# Altium footprint library SM_Omega2S.PcbLib: 1 footprints
Each footprint in its own frame and in the unit in brackets; x right, y up, seen from the top. Pads: shape width x height; smd on the part's side, far side on the other; paste and mask are expansions set on the pad; w line width, h text height; cw(c..) or ccw(c..) is an arc to the next point about the centre after c.
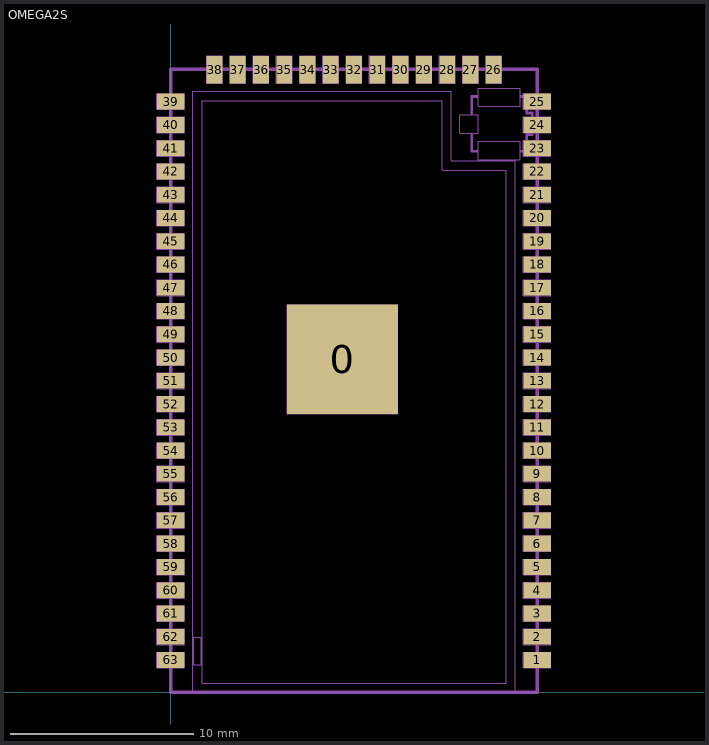
[diagram p0: the footprint, top view; thin cyan lines are the x and y axes]

## OMEGA2S [mm] "LINUX MODULE"
pads (64):
  rect 6.041x5.959 smd mask+0.102: 0(9.369,18.174)
  rect 1.5x0.86 smd mask+0.102: 1(19.99,1.76) 2(20,3.03) 3(20,4.3) 4(20,5.57) 5(20,6.84) 6(20,8.11) 7(20,9.38) 8(20,10.65) 9(20,11.92) 10(20,13.19) 11(20,14.46) 12(20,15.73) 13(20,17) 14(20,18.27) 15(20,19.54) 16(20,20.81) 17(20,22.08) 18(20,23.35) 19(20,24.62) 20(20,25.89) 21(20,27.16) 22(20,28.43) 23(20,29.7) 24(20,30.97) 25(20,32.24) 39(-0.01,32.24) 40(-0.01,30.97) 41(-0.01,29.7) 42(-0.01,28.43) 43(-0.01,27.16) 44(-0.01,25.89) 45(-0.01,24.62) 46(-0.01,23.35) 47(-0.01,22.08) 48(-0.01,20.81) 49(-0.01,19.54) 50(-0.01,18.27) 51(-0.01,17) 52(-0.01,15.73) 53(-0.01,14.46) 54(-0.01,13.19) 55(-0.01,11.92) 56(-0.01,10.65) 57(-0.01,9.38) 58(-0.01,8.11) 59(-0.01,6.84) 60(-0.01,5.57) 61(-0.01,4.3) 62(-0.01,3.03) 63(-0.01,1.76)
  rect 0.86x1.5 smd mask+0.102: 26(17.62,33.99) 27(16.35,33.99) 28(15.08,33.99) 29(13.81,33.99) 30(12.54,33.99) 31(11.27,33.99) 32(10,33.99) 33(8.73,33.99) 34(7.46,33.99) 35(6.19,33.99) 36(4.92,33.99) 37(3.65,33.99) 38(2.38,33.99)
Mechanical 2:
  drawing of 299 lines, arcs and shapes, not listed
Mechanical 11:
  lines w0.2: 0,0 0,0 ; 0,0 0,34 20,34 20,0 0,0
3D body "oMEGA2s.step": height 2.1, standoff -0.6, extent 0,0 20,34